# Altium schematic symbol library Switch.SchLib: 1 symbol
Pins are listed as number, name and electrical type; pins without a type are passive.

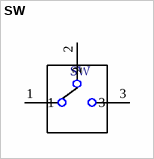
[diagram p0: symbol SW]

## SW
designator SW  (value not drawn)
SWITCH SLIDE SPDT 200MA 12V; Manufacturer: Nidec Copal Electronics; Manufacturer Part Number: CL-SB-12B-01T; DigiKeyURL: https://www.digikey.com/product-detail/en/nidec-copal-electronics/CL-SB-12B-01T/563-1318-1-ND/3507878; Digi-Key Part Number: 563-1318-1-ND; Snapeda_Url: https://www.snapeda.com/parts/CL-SB-12B-01T/Nidec%20Copal/view-part/?ref=search&t=CL-SB-12B-01T
footprint SW
pins: 1 (io), 2 (io), 3 (io)